# Altium footprint library SO-20.PcbLib: 1 footprints
Each footprint in its own frame and in the unit in brackets; x right, y up, seen from the top. Pads: shape width x height; smd on the part's side, far side on the other; paste and mask are expansions set on the pad; w line width, h text height; cw(c..) or ccw(c..) is an arc to the next point about the centre after c.
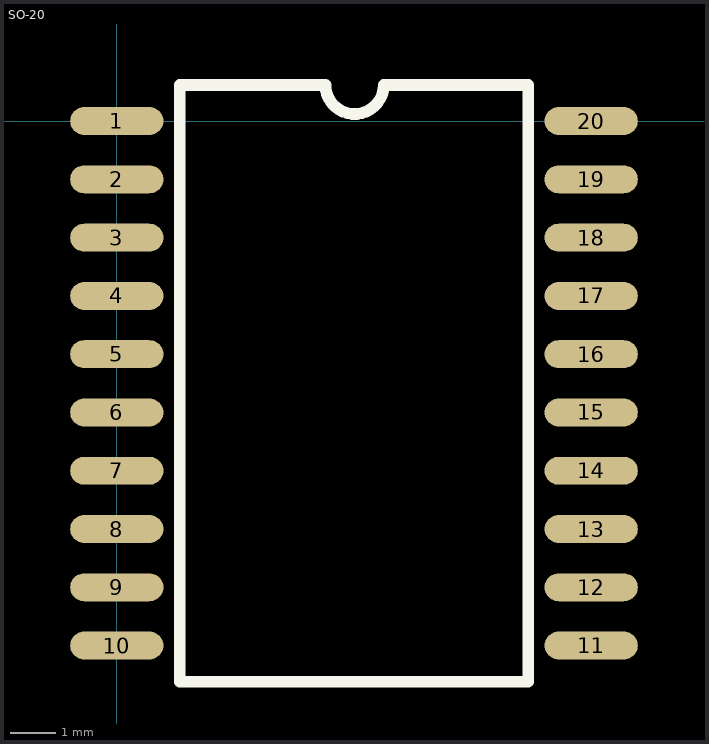
[diagram p0: the footprint, top view; thin cyan lines are the x and y axes]

## SO-20 [mil]
pads (20):
  oval 80x24 smd: 1(0,0) 2(0,-50) 3(0,-100) 4(0,-150) 5(0,-200) 6(0,-250) 7(0,-300) 8(0,-350) 9(0,-400) 10(0,-450) 11(407,-450) 12(407,-400) 13(407,-350) 14(407,-300) 15(407,-250) 16(407,-200) 17(407,-150) 18(407,-100) 19(407,-50) 20(407,0)
TopOverlay:
  lines w10: 54,-481 353,-481 353,31 229,31 cw(c204,31) 179,31 54,31 54,-481
Mechanical4:
  text ".062" at 0,0 h1
  text "0" at -1,-1 h1